# EAGLE library part RX5808 (library LARS_409_MODULES)
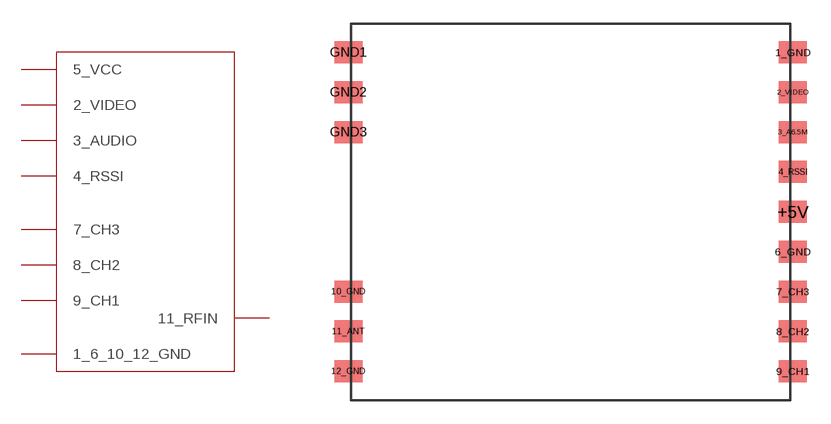
[diagram p15: symbol with the pads of RX5808; footprint RX5808]

Designator prefix M

## RX5808  [RX5808]
1_GND  1_6_10_12_GND
2_VIDEO  2_VIDEO
3_A6.5M  3_AUDIO
4_RSSI  4_RSSI
6_GND  1_6_10_12_GND
7_CH3  7_CH3
8_CH2  8_CH2
9_CH1  9_CH1
10_GND  1_6_10_12_GND
11_ANT  11_RFIN
12_GND  1_6_10_12_GND
+5V  5_VCC
GND1  1_6_10_12_GND
GND2  1_6_10_12_GND
GND3  1_6_10_12_GND

## Footprint RX5808 (pad centres in mm)
smd 1.8 x 1.4: 1_GND 14.17,10.16; 2_VIDEO 14.17,7.62; 3_A6.5M 14.17,5.08; 4_RSSI 14.17,2.54; 6_GND 14.17,-2.54; 7_CH3 14.17,-5.08; 8_CH2 14.17,-7.62; 9_CH1 14.17,-10.16; 10_GND -14.17,-5.08; 11_ANT -14.17,-7.62; 12_GND -14.17,-10.16; +5V 14.17,0; GND1 -14.17,10.16; GND2 -14.17,7.62; GND3 -14.17,5.08